# Altium footprint library condensateur.PcbLib: 3 footprints
Each footprint in its own frame and in the unit in brackets; x right, y up, seen from the top. Pads: shape width x height; smd on the part's side, far side on the other; paste and mask are expansions set on the pad; w line width, h text height; cw(c..) or ccw(c..) is an arc to the next point about the centre after c.
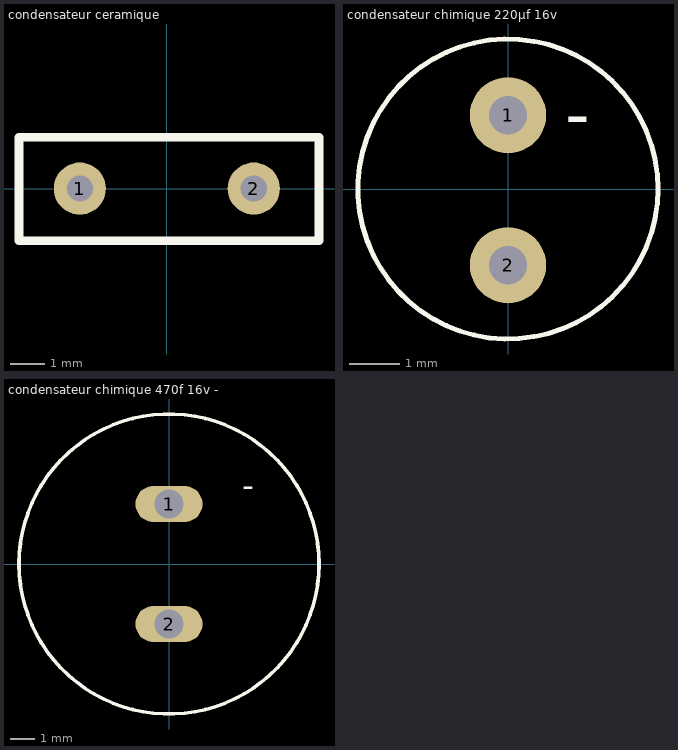
[diagram p0: the footprints below, top view; thin cyan lines are the x and y axes]

## condensateur ceramique [mil]
pads (2):
  round 60 hole 30: 1(-100,0) 2(100,0)
Top Overlay:
  lines w10: -170,-60 175,-60 175,59.06 -170,59.06 -170,-60

## condensateur chimique 220µf 16v [mil]
pads (2):
  round 60 hole 30: 1(0,58.11) 2(0,-60)
Top Overlay:
  circle w3.94: c0,0 r118.11
  text "-" at 45,40 h39.37

## condensateur chimique 470f 16v - [mm]
pads (2):
  oval 2.8x1.5 hole 1.2: 1(0,2.5) 2(0,-2.5)
Top Overlay:
  circle w0.15: c0,0 r6.25
  text "-" at 3.048,2.794 h1
3D body "EEUFS1V102LB.STEP": height 25, standoff -17, extent -4.999,-5.127 4.999,4.873